# Altium schematic symbol library Microchip Interface.SchLib: 180 symbols (part 3 of 6)
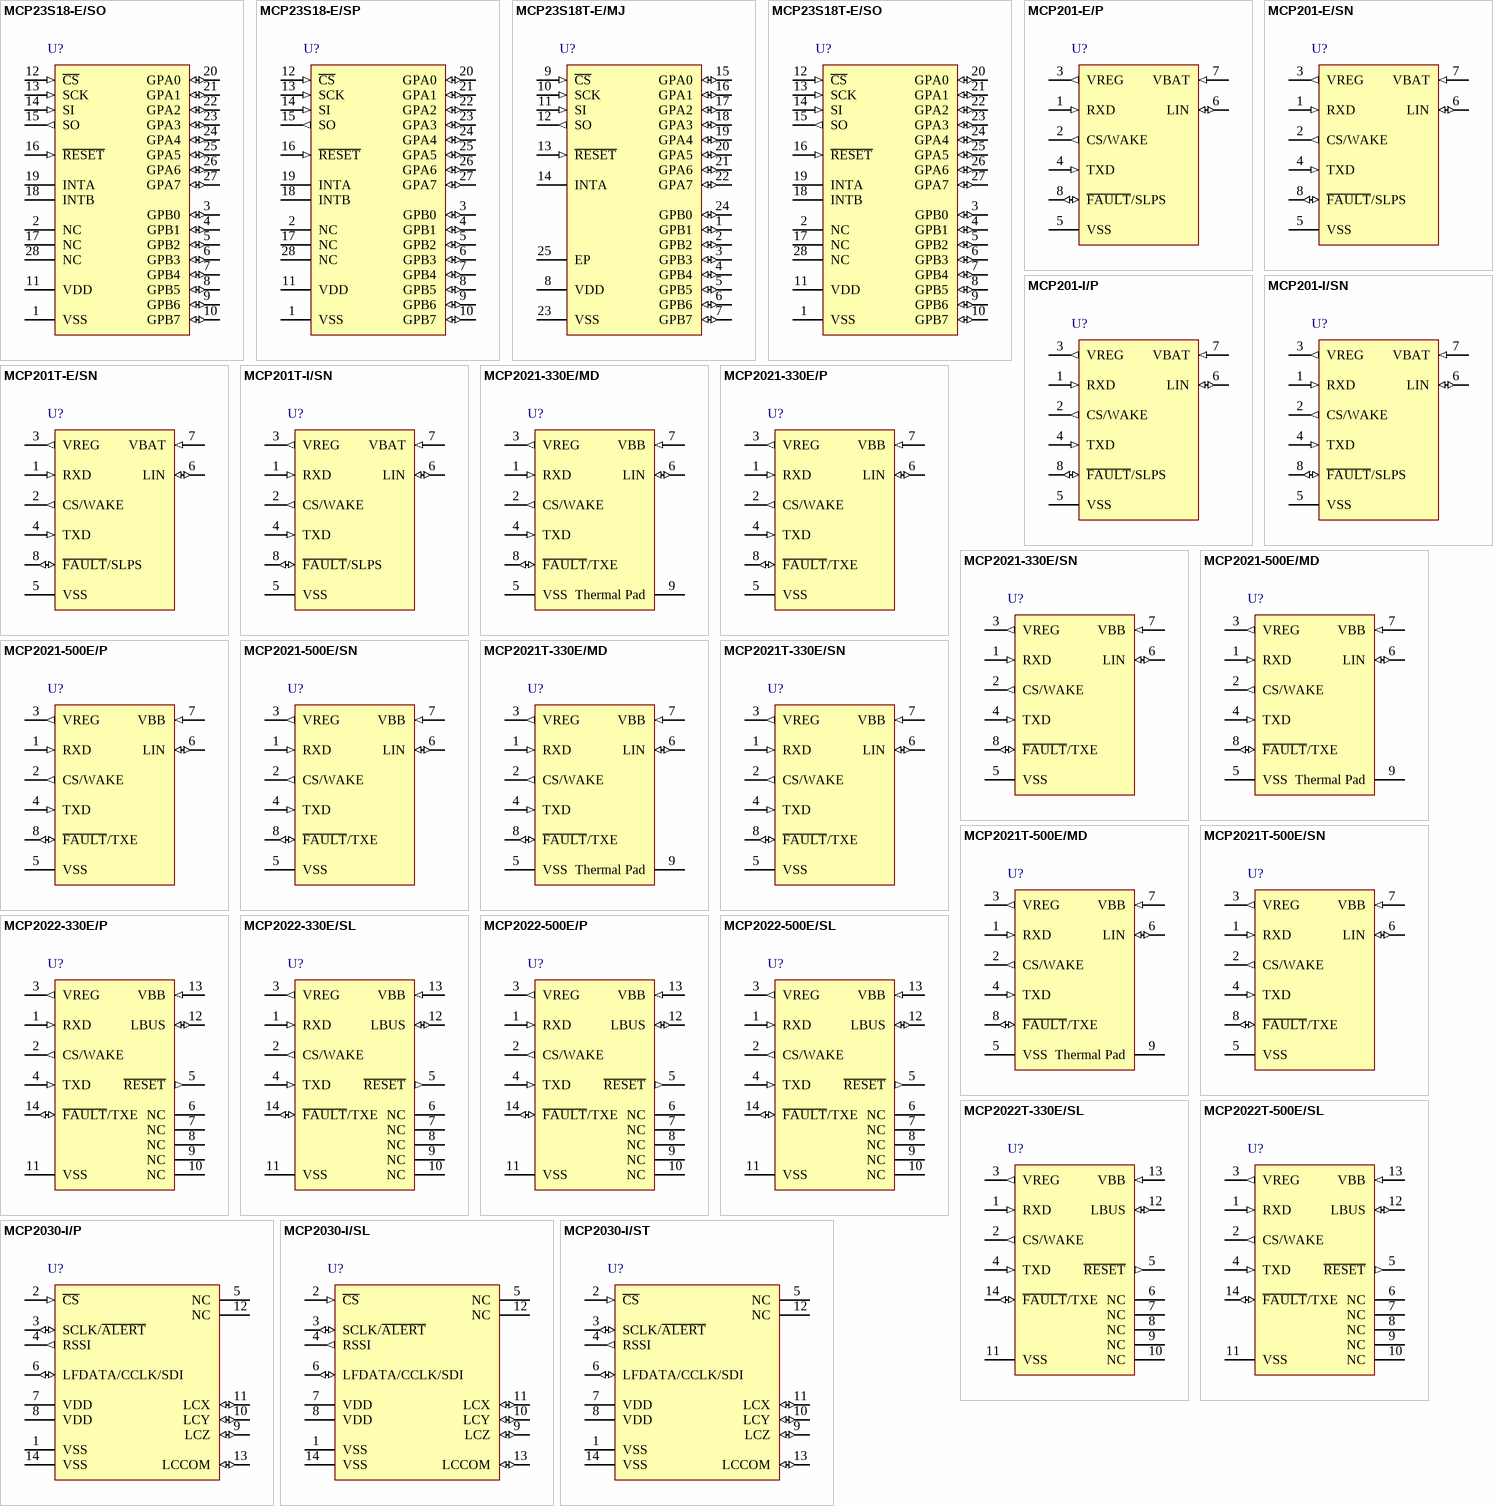
[diagram p10: symbols MCP23S18-E/SO to MCP2030-I/ST]

## MCP2022T-330E/SL
designator U?
LIN Transceiver with Voltage Regulator, 14-Pin SOIC, Extended Temperature, Tape and Reel; Published: 29-Jan-2009; LatestRevisionDate: 02-Dec-2009; LatestRevisionNote: Updated to datesheet revision E, Feb-2009; DatasheetVersion: revE, Feb-2009; PackageVersion: revBB, Aug-2009; PackageReference: SOIC-SL14; Publisher: Altium Limited; PackageDescription: 14-Lead Plastic Small Outline (SL) - Narrow, 3.90mm Body [SOIC]; Supplier 1: Digi-Key; Supplier Part Number 1: MCP2022T-330E/SLTR-ND; Code_JEDEC: MS-012-AB; Code_IPC: SOIC127P600-14; ComponentLink1Description: Datasheet; ComponentLink1URL: http://ww1.microchip.com/downloads/en/DeviceDoc/22018e.pdf; ComponentLink2Description: Packaging Specification; ComponentLink2URL: http://www.microchip.com/stellent/groups/techpub_sg/documents/packagingspec/en012702.pdf; ComponentLink3Description: Microchip.com Home; ComponentLink3URL: http://www.microchip.com/
footprint SOIC-SL14_N (SOIC, 14-Leads, Body 8.7x3.9mm, Pitch 1.27mm, IPC Medium Density)
footprint SOIC-SL14_L (SOIC, 14-Leads, Body 8.7x3.9mm, Pitch 1.27mm, IPC High Density)
footprint SOIC-SL14_M (SOIC, 14-Leads, Body 8.7x3.9mm, Pitch 1.27mm, IPC Low Density)
pins: 1 RXD (in), 2 CS/WAKE (out), 3 VREG (out), 4 TXD (in), 5 ~{RESET} (out), 6 NC, 7 NC, 8 NC, 9 NC, 10 NC, 11 VSS (power), 12 LBUS (io), 13 VBB (in), 14 ~{FAULT}/TXE (io)

## MCP2022T-500E/SL
designator U?
LIN Transceiver with Voltage Regulator, 14-Pin SOIC, Extended Temperature, Tape and Reel; Published: 29-Jan-2009; LatestRevisionDate: 02-Dec-2009; LatestRevisionNote: Updated to datesheet revision E, Feb-2009; DatasheetVersion: revE, Feb-2009; PackageVersion: revBB, Aug-2009; PackageReference: SOIC-SL14; Publisher: Altium Limited; PackageDescription: 14-Lead Plastic Small Outline (SL) - Narrow, 3.90mm Body [SOIC]; Supplier 1: Digi-Key; Supplier Part Number 1: MCP2022T-500E/SLTR-ND; Code_JEDEC: MS-012-AB; Code_IPC: SOIC127P600-14; ComponentLink1Description: Datasheet; ComponentLink1URL: http://ww1.microchip.com/downloads/en/DeviceDoc/22018e.pdf; ComponentLink2Description: Packaging Specification; ComponentLink2URL: http://www.microchip.com/stellent/groups/techpub_sg/documents/packagingspec/en012702.pdf; ComponentLink3Description: Microchip.com Home; ComponentLink3URL: http://www.microchip.com/
footprint SOIC-SL14_N (SOIC, 14-Leads, Body 8.7x3.9mm, Pitch 1.27mm, IPC Medium Density)
footprint SOIC-SL14_L (SOIC, 14-Leads, Body 8.7x3.9mm, Pitch 1.27mm, IPC High Density)
footprint SOIC-SL14_M (SOIC, 14-Leads, Body 8.7x3.9mm, Pitch 1.27mm, IPC Low Density)
pins: 1 RXD (in), 2 CS/WAKE (out), 3 VREG (out), 4 TXD (in), 5 ~{RESET} (out), 6 NC, 7 NC, 8 NC, 9 NC, 10 NC, 11 VSS (power), 12 LBUS (io), 13 VBB (in), 14 ~{FAULT}/TXE (io)

## MCP2030-I/P
designator U?
Three-Channel Analog Front-End Device, 14-Pin PDIP, Industrial Temperature; Published: 29-Jan-2009; DatasheetVersion: revA, Nov-2005; PackageVersion: revBB, Aug-2009; PackageReference: PDIP300-P14; Publisher: Altium Limited; PackageDescription: 14-Lead Plastic Dual In-Line (P) - 300 mil Body [PDIP]; Supplier 1: Digi-Key; Supplier Part Number 1: MCP2030-I/P-ND; Supplier 2: Farnell; Supplier Part Number 2: 1262699; Supplier 3: Farnell; Supplier Part Number 3: 1605563; ComponentLink1Description: Datasheet; ComponentLink1URL: http://ww1.microchip.com/downloads/en/DeviceDoc/21981a.pdf; ComponentLink2Description: Packaging Specification; ComponentLink2URL: http://www.microchip.com/stellent/groups/techpub_sg/documents/packagingspec/en012702.pdf; ComponentLink3Description: Microchip.com Home; ComponentLink3URL: http://www.microchip.com/
footprint PDIP300-P14 (DIP, 14-Leads, Row Spacing 7.62mm, Pitch 2.54mm, Body 19.2x6.6mm)
pins: 1 VSS (power), 2 ~{CS} (in), 3 SCLK/~{ALERT} (io), 4 RSSI (out), 5 NC, 6 LFDATA/CCLK/SDI (io), 7 VDD (power), 8 VDD (power), 9 LCZ (io), 10 LCY (io), 11 LCX (io), 12 NC, 13 LCCOM (io), 14 VSS (power)

## MCP2030-I/SL
designator U?
Three-Channel Analog Front-End Device, 14-Pin SOIC, Industrial Temperature; Published: 29-Jan-2009; DatasheetVersion: revA, Nov-2005; PackageVersion: revBB, Aug-2009; PackageReference: SOIC-SL14; Publisher: Altium Limited; PackageDescription: 14-Lead Plastic Small Outline (SL) - Narrow, 3.90mm Body [SOIC]; Supplier 1: Digi-Key; Supplier Part Number 1: MCP2030-I/SL-ND; Supplier 2: Farnell; Supplier Part Number 2: 1262700; Code_JEDEC: MS-012-AB; Code_IPC: SOIC127P600-14; ComponentLink1Description: Datasheet; ComponentLink1URL: http://ww1.microchip.com/downloads/en/DeviceDoc/21981a.pdf; ComponentLink2Description: Packaging Specification; ComponentLink2URL: http://www.microchip.com/stellent/groups/techpub_sg/documents/packagingspec/en012702.pdf; ComponentLink3Description: Microchip.com Home; ComponentLink3URL: http://www.microchip.com/
footprint SOIC-SL14_N (SOIC, 14-Leads, Body 8.7x3.9mm, Pitch 1.27mm, IPC Medium Density)
footprint SOIC-SL14_L (SOIC, 14-Leads, Body 8.7x3.9mm, Pitch 1.27mm, IPC High Density)
footprint SOIC-SL14_M (SOIC, 14-Leads, Body 8.7x3.9mm, Pitch 1.27mm, IPC Low Density)
pins: 1 VSS (power), 2 ~{CS} (in), 3 SCLK/~{ALERT} (io), 4 RSSI (out), 5 NC, 6 LFDATA/CCLK/SDI (io), 7 VDD (power), 8 VDD (power), 9 LCZ (io), 10 LCY (io), 11 LCX (io), 12 NC, 13 LCCOM (io), 14 VSS (power)

## MCP2030-I/ST
designator U?
Three-Channel Analog Front-End Device, 14-Pin TSSOP, Industrial Temperature; Published: 29-Jan-2009; DatasheetVersion: revA, Nov-2005; PackageVersion: revBB, Aug-2009; PackageReference: TSSOP-ST14; Publisher: Altium Limited; PackageDescription: 14-Lead Plastic Thin Shrink Small Outline (ST) - 4.4mm Body [TSSOP]; Supplier 1: Digi-Key; Supplier Part Number 1: MCP2030-I/ST-ND; ComponentLink1Description: Datasheet; ComponentLink1URL: http://ww1.microchip.com/downloads/en/DeviceDoc/21981a.pdf; ComponentLink2Description: Packaging Specification; ComponentLink2URL: http://www.microchip.com/stellent/groups/techpub_sg/documents/packagingspec/en012702.pdf; ComponentLink3Description: Microchip.com Home; ComponentLink3URL: http://www.microchip.com/
footprint TSSOP-ST14_N (TSOP, 14-Leads, Body 5x4.4mm, Pitch 0.65mm, IPC Medium Density)
footprint TSSOP-ST14_L (TSOP, 14-Leads, Body 5x4.4mm, Pitch 0.65mm, IPC High Density)
footprint TSSOP-ST14_M (TSOP, 14-Leads, Body 5x4.4mm, Pitch 0.65mm, IPC Low Density)
pins: 1 VSS (power), 2 ~{CS} (in), 3 SCLK/~{ALERT} (io), 4 RSSI (out), 5 NC, 6 LFDATA/CCLK/SDI (io), 7 VDD (power), 8 VDD (power), 9 LCZ (io), 10 LCY (io), 11 LCX (io), 12 NC, 13 LCCOM (io), 14 VSS (power)

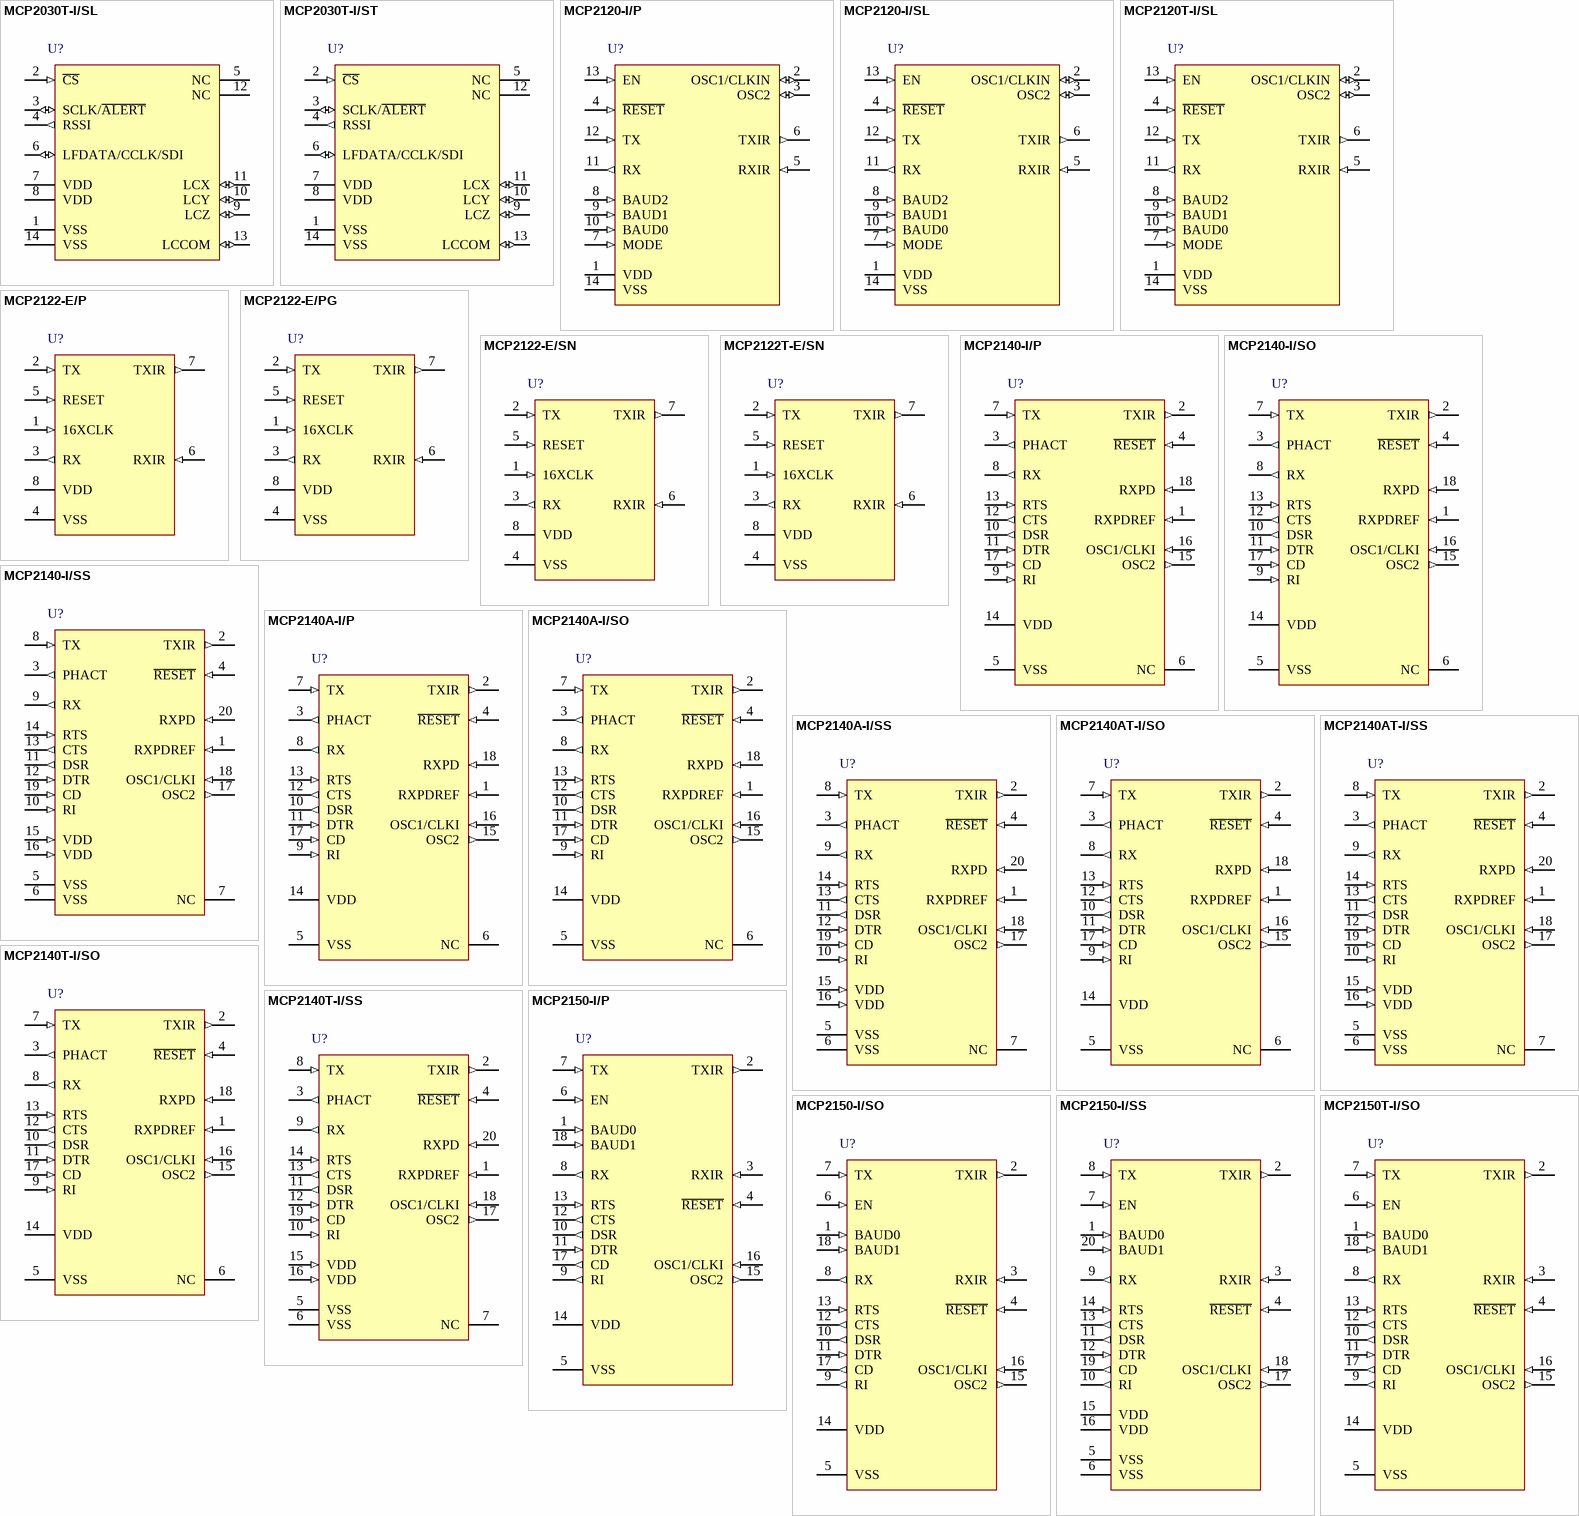
[diagram p4: symbols MCP2030T-I/SL to MCP2150T-I/SO]

## MCP2030T-I/SL
designator U?
Three-Channel Analog Front-End Device, 14-Pin SOIC, Industrial Temperature, Tape and Reel; Published: 29-Jan-2009; DatasheetVersion: revA, Nov-2005; PackageVersion: revBB, Aug-2009; PackageReference: SOIC-SL14; Publisher: Altium Limited; PackageDescription: 14-Lead Plastic Small Outline (SL) - Narrow, 3.90mm Body [SOIC]; Supplier 1: Digi-Key; Supplier Part Number 1: MCP2030T-I/SL-ND; Code_JEDEC: MS-012-AB; Code_IPC: SOIC127P600-14; ComponentLink1Description: Datasheet; ComponentLink1URL: http://ww1.microchip.com/downloads/en/DeviceDoc/21981a.pdf; ComponentLink2Description: Packaging Specification; ComponentLink2URL: http://www.microchip.com/stellent/groups/techpub_sg/documents/packagingspec/en012702.pdf; ComponentLink3Description: Microchip.com Home; ComponentLink3URL: http://www.microchip.com/
footprint SOIC-SL14_N (SOIC, 14-Leads, Body 8.7x3.9mm, Pitch 1.27mm, IPC Medium Density)
footprint SOIC-SL14_L (SOIC, 14-Leads, Body 8.7x3.9mm, Pitch 1.27mm, IPC High Density)
footprint SOIC-SL14_M (SOIC, 14-Leads, Body 8.7x3.9mm, Pitch 1.27mm, IPC Low Density)
pins: 1 VSS (power), 2 ~{CS} (in), 3 SCLK/~{ALERT} (io), 4 RSSI (out), 5 NC, 6 LFDATA/CCLK/SDI (io), 7 VDD (power), 8 VDD (power), 9 LCZ (io), 10 LCY (io), 11 LCX (io), 12 NC, 13 LCCOM (io), 14 VSS (power)

## MCP2030T-I/ST
designator U?
Three-Channel Analog Front-End Device, 14-Pin TSSOP, Industrial Temperature, Tape and Reel; Published: 29-Jan-2009; DatasheetVersion: revA, Nov-2005; PackageVersion: revBB, Aug-2009; PackageReference: TSSOP-ST14; Publisher: Altium Limited; PackageDescription: 14-Lead Plastic Thin Shrink Small Outline (ST) - 4.4mm Body [TSSOP]; Supplier 1: Digi-Key; Supplier Part Number 1: MCP2030T-I/ST-ND; ComponentLink1Description: Datasheet; ComponentLink1URL: http://ww1.microchip.com/downloads/en/DeviceDoc/21981a.pdf; ComponentLink2Description: Packaging Specification; ComponentLink2URL: http://www.microchip.com/stellent/groups/techpub_sg/documents/packagingspec/en012702.pdf; ComponentLink3Description: Microchip.com Home; ComponentLink3URL: http://www.microchip.com/
footprint TSSOP-ST14_N (TSOP, 14-Leads, Body 5x4.4mm, Pitch 0.65mm, IPC Medium Density)
footprint TSSOP-ST14_L (TSOP, 14-Leads, Body 5x4.4mm, Pitch 0.65mm, IPC High Density)
footprint TSSOP-ST14_M (TSOP, 14-Leads, Body 5x4.4mm, Pitch 0.65mm, IPC Low Density)
pins: 1 VSS (power), 2 ~{CS} (in), 3 SCLK/~{ALERT} (io), 4 RSSI (out), 5 NC, 6 LFDATA/CCLK/SDI (io), 7 VDD (power), 8 VDD (power), 9 LCZ (io), 10 LCY (io), 11 LCX (io), 12 NC, 13 LCCOM (io), 14 VSS (power)

## MCP2120-I/P
designator U?
Infrared Encoder/Decoder, 14-Pin PDIP, Industrial Temperature; Published: 29-Jan-2009; DatasheetVersion: revB, Feb-2007; PackageVersion: revBB, Aug-2009; PackageReference: PDIP300-P14; Publisher: Altium Limited; PackageDescription: 14-Lead Plastic Dual In-Line (P) - 300 mil Body [PDIP]; Supplier 1: Digi-Key; Supplier Part Number 1: MCP2120-I/P-ND; Supplier 2: Farnell; Supplier Part Number 2: 1084304; ComponentLink1Description: Datasheet; ComponentLink1URL: http://ww1.microchip.com/downloads/en/DeviceDoc/21618b.pdf; ComponentLink2Description: Packaging Specification; ComponentLink2URL: http://www.microchip.com/stellent/groups/techpub_sg/documents/packagingspec/en012702.pdf; ComponentLink3Description: Microchip.com Home; ComponentLink3URL: http://www.microchip.com/
footprint PDIP300-P14 (DIP, 14-Leads, Row Spacing 7.62mm, Pitch 2.54mm, Body 19.2x6.6mm)
pins: 1 VDD (power), 2 OSC1/CLKIN (io), 3 OSC2 (io), 4 ~{RESET} (in), 5 RXIR (in), 6 TXIR (out), 7 MODE (in), 8 BAUD2 (in), 9 BAUD1 (in), 10 BAUD0 (in), 11 RX (out), 12 TX (in), 13 EN (in), 14 VSS (power)

## MCP2120-I/SL
designator U?
Infrared Encoder/Decoder, 14-Pin SOIC, Industrial Temperature; Published: 29-Jan-2009; DatasheetVersion: revB, Feb-2007; PackageVersion: revBB, Aug-2009; PackageReference: SOIC-SL14; Publisher: Altium Limited; PackageDescription: 14-Lead Plastic Small Outline (SL) - Narrow, 3.90mm Body [SOIC]; Supplier 1: Digi-Key; Supplier Part Number 1: MCP2120-I/SL-ND; Supplier 2: Farnell; Supplier Part Number 2: 1084305; Code_JEDEC: MS-012-AB; Code_IPC: SOIC127P600-14; ComponentLink1Description: Datasheet; ComponentLink1URL: http://ww1.microchip.com/downloads/en/DeviceDoc/21618b.pdf; ComponentLink2Description: Packaging Specification; ComponentLink2URL: http://www.microchip.com/stellent/groups/techpub_sg/documents/packagingspec/en012702.pdf; ComponentLink3Description: Microchip.com Home; ComponentLink3URL: http://www.microchip.com/
footprint SOIC-SL14_N (SOIC, 14-Leads, Body 8.7x3.9mm, Pitch 1.27mm, IPC Medium Density)
footprint SOIC-SL14_L (SOIC, 14-Leads, Body 8.7x3.9mm, Pitch 1.27mm, IPC High Density)
footprint SOIC-SL14_M (SOIC, 14-Leads, Body 8.7x3.9mm, Pitch 1.27mm, IPC Low Density)
pins: 1 VDD (power), 2 OSC1/CLKIN (io), 3 OSC2 (io), 4 ~{RESET} (in), 5 RXIR (in), 6 TXIR (out), 7 MODE (in), 8 BAUD2 (in), 9 BAUD1 (in), 10 BAUD0 (in), 11 RX (out), 12 TX (in), 13 EN (in), 14 VSS (power)

## MCP2120T-I/SL
designator U?
Infrared Encoder/Decoder, 14-Pin SOIC, Industrial Temperature, Tape and Reel; Published: 29-Jan-2009; DatasheetVersion: revB, Feb-2007; PackageVersion: revBB, Aug-2009; PackageReference: SOIC-SL14; Publisher: Altium Limited; PackageDescription: 14-Lead Plastic Small Outline (SL) - Narrow, 3.90mm Body [SOIC]; Supplier 1: Digi-Key; Supplier Part Number 1: MCP2120T-I/SL-ND; Code_JEDEC: MS-012-AB; Code_IPC: SOIC127P600-14; ComponentLink1Description: Datasheet; ComponentLink1URL: http://ww1.microchip.com/downloads/en/DeviceDoc/21618b.pdf; ComponentLink2Description: Packaging Specification; ComponentLink2URL: http://www.microchip.com/stellent/groups/techpub_sg/documents/packagingspec/en012702.pdf; ComponentLink3Description: Microchip.com Home; ComponentLink3URL: http://www.microchip.com/
footprint SOIC-SL14_N (SOIC, 14-Leads, Body 8.7x3.9mm, Pitch 1.27mm, IPC Medium Density)
footprint SOIC-SL14_L (SOIC, 14-Leads, Body 8.7x3.9mm, Pitch 1.27mm, IPC High Density)
footprint SOIC-SL14_M (SOIC, 14-Leads, Body 8.7x3.9mm, Pitch 1.27mm, IPC Low Density)
pins: 1 VDD (power), 2 OSC1/CLKIN (io), 3 OSC2 (io), 4 ~{RESET} (in), 5 RXIR (in), 6 TXIR (out), 7 MODE (in), 8 BAUD2 (in), 9 BAUD1 (in), 10 BAUD0 (in), 11 RX (out), 12 TX (in), 13 EN (in), 14 VSS (power)

## MCP2122-E/P
designator U?
Infrared Encoder/Decoder, PDIP, Extended Temperature; Published: 29-Jan-2009; DatasheetVersion: revC, Feb-2007; PackageVersion: revBB, Aug-2009; PackageReference: PDIP300-P8; Publisher: Altium Limited; PackageDescription: 8-Lead Plastic Dual In-Line (P) - 300 mil Body [PDIP]; Supplier 1: Digi-Key; Supplier Part Number 1: MCP2122-E/P-ND; Supplier 2: Farnell; Supplier Part Number 2: 1818528; Code_JEDEC: MS-001; ComponentLink1Description: Datasheet; ComponentLink1URL: http://ww1.microchip.com/downloads/en/DeviceDoc/21894c.pdf; ComponentLink2Description: Packaging Specification; ComponentLink2URL: http://www.microchip.com/stellent/groups/techpub_sg/documents/packagingspec/en012702.pdf; ComponentLink3Description: Microchip.com Home; ComponentLink3URL: http://www.microchip.com/
footprint PDIP300-P8 (DIP, 8-Leads, Row Spacing 7.62mm, Pitch 2.54mm, Body 9.5x6.6mm)
pins: 1 16XCLK (in), 2 TX (in), 3 RX (out), 4 VSS (power), 5 RESET (in), 6 RXIR (in), 7 TXIR (out), 8 VDD (power)

## MCP2122-E/PG
designator U?
Infrared Encoder/Decoder, PDIP, Extended Temperature; Published: 2-Dec-2009; DatasheetVersion: revC, Feb-2007; PackageVersion: revBB, Aug-2009; PackageReference: PDIP300-P8; Publisher: Altium Limited; PackageDescription: 8-Lead Plastic Dual In-Line (P) - 300 mil Body [PDIP]; Supplier 1: Digi-Key; Supplier Part Number 1: MCP2122-E/PG-ND; Supplier 2: Farnell; Supplier Part Number 2: 7893383; Code_JEDEC: MS-001; ComponentLink1Description: Datasheet; ComponentLink1URL: http://ww1.microchip.com/downloads/en/DeviceDoc/21894c.pdf; ComponentLink2Description: Packaging Specification; ComponentLink2URL: http://www.microchip.com/stellent/groups/techpub_sg/documents/packagingspec/en012702.pdf; ComponentLink3Description: Microchip.com Home; ComponentLink3URL: http://www.microchip.com/
footprint PDIP300-P8 (DIP, 8-Leads, Row Spacing 7.62mm, Pitch 2.54mm, Body 9.5x6.6mm)
pins: 1 16XCLK (in), 2 TX (in), 3 RX (out), 4 VSS (power), 5 RESET (in), 6 RXIR (in), 7 TXIR (out), 8 VDD (power)

## MCP2122-E/SN
designator U?
Infrared Encoder/Decoder, SOIC, Extended Temperature; Published: 29-Jan-2009; DatasheetVersion: revC, Feb-2007; PackageVersion: revBB, Aug-2009; PackageReference: SOIC-SN8; Publisher: Altium Limited; PackageDescription: 8-Lead Plastic Small Outline (SN) - Narrow, 3.90mm Body [SOIC]; Supplier 1: Digi-Key; Supplier Part Number 1: MCP2122-E/SN-ND; Supplier 2: Farnell; Supplier Part Number 2: 1788356; Code_JEDEC: MS-012; Code_IPC: SOIC127P600-8; ComponentLink1Description: Datasheet; ComponentLink1URL: http://ww1.microchip.com/downloads/en/DeviceDoc/21894c.pdf; ComponentLink2Description: Packaging Specification; ComponentLink2URL: http://www.microchip.com/stellent/groups/techpub_sg/documents/packagingspec/en012702.pdf; ComponentLink3Description: Microchip.com Home; ComponentLink3URL: http://www.microchip.com/
footprint SOIC-SN8_N (SOIC, 8-Leads, Body 4.9x3.8mm, Pitch 1.27mm, IPC Medium Density)
footprint SOIC-SN8_L (SOIC, 8-Leads, Body 4.9x3.8mm, Pitch 1.27mm, IPC High Density)
footprint SOIC-SN8_M (SOIC, 8-Leads, Body 4.9x3.8mm, Pitch 1.27mm, IPC Low Density)
pins: 1 16XCLK (in), 2 TX (in), 3 RX (out), 4 VSS (power), 5 RESET (in), 6 RXIR (in), 7 TXIR (out), 8 VDD (power)

## MCP2122T-E/SN
designator U?
Infrared Encoder/Decoder, SOIC, Extended Temperature, Tape and Reel; Published: 29-Jan-2009; DatasheetVersion: revC, Feb-2007; PackageVersion: revBB, Aug-2009; PackageReference: SOIC-SN8; Publisher: Altium Limited; PackageDescription: 8-Lead Plastic Small Outline (SN) - Narrow, 3.90mm Body [SOIC]; Supplier 1: Digi-Key; Supplier Part Number 1: MCP2122T-E/SNTR-ND; Supplier 2: Digi-Key; Supplier Part Number 2: MCP2122T-E/SNCT-ND; Supplier 3: Digi-Key; Supplier Part Number 3: MCP2122T-E/SNDKR-ND; Code_JEDEC: MS-012; Code_IPC: SOIC127P600-8; ComponentLink1Description: Datasheet; ComponentLink1URL: http://ww1.microchip.com/downloads/en/DeviceDoc/21894c.pdf; ComponentLink2Description: Packaging Specification; ComponentLink2URL: http://www.microchip.com/stellent/groups/techpub_sg/documents/packagingspec/en012702.pdf; ComponentLink3Description: Microchip.com Home; ComponentLink3URL: http://www.microchip.com/
footprint SOIC-SN8_N (SOIC, 8-Leads, Body 4.9x3.8mm, Pitch 1.27mm, IPC Medium Density)
footprint SOIC-SN8_L (SOIC, 8-Leads, Body 4.9x3.8mm, Pitch 1.27mm, IPC High Density)
footprint SOIC-SN8_M (SOIC, 8-Leads, Body 4.9x3.8mm, Pitch 1.27mm, IPC Low Density)
pins: 1 16XCLK (in), 2 TX (in), 3 RX (out), 4 VSS (power), 5 RESET (in), 6 RXIR (in), 7 TXIR (out), 8 VDD (power)

## MCP2140-I/P
designator U?
IrDA® Standard Protocol Stack Controller With Fixed 9600 Baud Communication Rate, 18-Pin PDIP, Industrial Temperature; Published: 29-Jan-2009; DatasheetVersion: revA, Sep-2003; PackageVersion: revBB, Aug-2009; PackageReference: PDIP300-P18; Publisher: Altium Limited; PackageDescription: 18-Lead Plastic Dual In-Line (P) - 300 mil Body [PDIP]; Supplier 1: Digi-Key; Supplier Part Number 1: MCP2140-I/P-ND; Supplier 2: Farnell; Supplier Part Number 2: 1332084; Code_JEDEC: MS-001; ComponentLink1Description: Datasheet; ComponentLink1URL: http://ww1.microchip.com/downloads/en/DeviceDoc/21790a.pdf; ComponentLink2Description: Packaging Specification; ComponentLink2URL: http://www.microchip.com/stellent/groups/techpub_sg/documents/packagingspec/en012702.pdf; ComponentLink3Description: Microchip.com Home; ComponentLink3URL: http://www.microchip.com/
footprint PDIP300-P18 (DIP, 18-Leads, Row Spacing 7.62mm, Pitch 2.54mm, Body 22.9x6.6mm)
pins: 1 RXPDREF (in), 2 TXIR (out), 3 PHACT (out), 4 ~{RESET} (in), 5 VSS (power), 6 NC, 7 TX (in), 8 RX (out), 9 RI (in), 10 DSR (out), 11 DTR (in), 12 CTS (out), 13 RTS (in), 14 VDD (power), 15 OSC2 (out), 16 OSC1/CLKI (in), 17 CD (in), 18 RXPD (in)

## MCP2140-I/SO
designator U?
IrDA® Standard Protocol Stack Controller With Fixed 9600 Baud Communication Rate, 18-Pin SOIC, Industrial Temperature; Published: 29-Jan-2009; DatasheetVersion: revA, Sep-2003; PackageVersion: revBB, Aug-2009; PackageReference: SOIC-SO18; Publisher: Altium Limited; PackageDescription: 18-Lead Plastic Small Outline (SO) - Wide 7.50mm Body [SOIC]; Supplier 1: Digi-Key; Supplier Part Number 1: MCP2140-I/SO-ND; Supplier 2: Farnell; Supplier Part Number 2: 1332085; Code_JEDEC: MS-013; ComponentLink1Description: Datasheet; ComponentLink1URL: http://ww1.microchip.com/downloads/en/DeviceDoc/21790a.pdf; ComponentLink2Description: Packaging Specification; ComponentLink2URL: http://www.microchip.com/stellent/groups/techpub_sg/documents/packagingspec/en012702.pdf; ComponentLink3Description: Microchip.com Home; ComponentLink3URL: http://www.microchip.com/
footprint SOIC-SO18_N (SOIC, 18-Leads, Body 11.5x7.5mm, Pitch 1.27mm, IPC Medium Density)
footprint SOIC-SO18_L (SOIC, 18-Leads, Body 11.5x7.5mm, Pitch 1.27mm, IPC High Density)
footprint SOIC-SO18_M (SOIC, 18-Leads, Body 11.5x7.5mm, Pitch 1.27mm, IPC Low Density)
pins: 1 RXPDREF (in), 2 TXIR (out), 3 PHACT (out), 4 ~{RESET} (in), 5 VSS (power), 6 NC, 7 TX (in), 8 RX (out), 9 RI (in), 10 DSR (out), 11 DTR (in), 12 CTS (out), 13 RTS (in), 14 VDD (power), 15 OSC2 (out), 16 OSC1/CLKI (in), 17 CD (in), 18 RXPD (in)

## MCP2140-I/SS
designator U?
IrDA® Standard Protocol Stack Controller With Fixed 9600 Baud Communication Rate, 20-Pin SSOP, Industrial Temperature; Published: 29-Jan-2009; DatasheetVersion: revA, Sep-2003; PackageVersion: revBB, Aug-2009; PackageReference: SSOP-SS20; Publisher: Altium Limited; PackageDescription: 20-Lead Plastic Shrink Small Outline (SS) - 5.3mm Body [SSOP]; Supplier 1: Digi-Key; Supplier Part Number 1: MCP2140-I/SS-ND; Supplier 2: Farnell; Supplier Part Number 2: 1261506; Code_JEDEC: MO-150; Code_IPC: SOP65P780-20; ComponentLink1Description: Datasheet; ComponentLink1URL: http://ww1.microchip.com/downloads/en/DeviceDoc/21790a.pdf; ComponentLink2Description: Packaging Specification; ComponentLink2URL: http://www.microchip.com/stellent/groups/techpub_sg/documents/packagingspec/en012702.pdf; ComponentLink3Description: Microchip.com Home; ComponentLink3URL: http://www.microchip.com/
footprint SSOP-SS20_N (SOP, 20-Leads, Body 7.2x5.2mm, Pitch 0.65mm, IPC Medium Density)
footprint SSOP-SS20_L (SOP, 20-Leads, Body 7.2x5.2mm, Pitch 0.65mm, IPC High Density)
footprint SSOP-SS20_M (SOP, 20-Leads, Body 7.2x5.2mm, Pitch 0.65mm, IPC Low Density)
pins: 1 RXPDREF (in), 2 TXIR (out), 3 PHACT (out), 4 ~{RESET} (in), 5 VSS (power), 6 VSS (power), 7 NC, 8 TX (in), 9 RX (out), 10 RI (in), 11 DSR (out), 12 DTR (in), 13 CTS (out), 14 RTS (in), 15 VDD (in), 16 VDD (in), 17 OSC2 (out), 18 OSC1/CLKI (in), 19 CD (in), 20 RXPD (in)

## MCP2140A-I/P
designator U?
IrDA® Standard Protocol Stack Controller With Fixed 9600 Baud Communication Rate, 18-Pin PDIP, Industrial Temperature; Published: 29-Jan-2009; DatasheetVersion: revA, Jun-2007; PackageVersion: revBB, Aug-2009; PackageReference: PDIP300-P18; Publisher: Altium Limited; PackageDescription: 18-Lead Plastic Dual In-Line (P) - 300 mil Body [PDIP]; Supplier 1: Digi-Key; Supplier Part Number 1: MCP2140A-I/P-ND; Supplier 2: Farnell; Supplier Part Number 2: 1439520; Code_JEDEC: MS-001; ComponentLink1Description: Datasheet; ComponentLink1URL: http://ww1.microchip.com/downloads/en/DeviceDoc/22050a.pdf; ComponentLink2Description: Packaging Specification; ComponentLink2URL: http://www.microchip.com/stellent/groups/techpub_sg/documents/packagingspec/en012702.pdf; ComponentLink3Description: Microchip.com Home; ComponentLink3URL: http://www.microchip.com/
footprint PDIP300-P18 (DIP, 18-Leads, Row Spacing 7.62mm, Pitch 2.54mm, Body 22.9x6.6mm)
pins: 1 RXPDREF (in), 2 TXIR (out), 3 PHACT (out), 4 ~{RESET} (in), 5 VSS (power), 6 NC, 7 TX (in), 8 RX (out), 9 RI (in), 10 DSR (out), 11 DTR (in), 12 CTS (out), 13 RTS (in), 14 VDD (power), 15 OSC2 (out), 16 OSC1/CLKI (in), 17 CD (in), 18 RXPD (in)

## MCP2140A-I/SO
designator U?
IrDA® Standard Protocol Stack Controller With Fixed 9600 Baud Communication Rate, 18-Pin SOIC, Industrial Temperature; Published: 29-Jan-2009; DatasheetVersion: revA, Jun-2007; PackageVersion: revBB, Aug-2009; PackageReference: SOIC-SO18; Publisher: Altium Limited; PackageDescription: 18-Lead Plastic Small Outline (SO) - Wide 7.50mm Body [SOIC]; Supplier 1: Digi-Key; Supplier Part Number 1: MCP2140A-I/SO-ND; Supplier 2: Farnell; Supplier Part Number 2: 1439521; Code_JEDEC: MS-013; ComponentLink1Description: Datasheet; ComponentLink1URL: http://ww1.microchip.com/downloads/en/DeviceDoc/22050a.pdf; ComponentLink2Description: Packaging Specification; ComponentLink2URL: http://www.microchip.com/stellent/groups/techpub_sg/documents/packagingspec/en012702.pdf; ComponentLink3Description: Microchip.com Home; ComponentLink3URL: http://www.microchip.com/
footprint SOIC-SO18_N (SOIC, 18-Leads, Body 11.5x7.5mm, Pitch 1.27mm, IPC Medium Density)
footprint SOIC-SO18_L (SOIC, 18-Leads, Body 11.5x7.5mm, Pitch 1.27mm, IPC High Density)
footprint SOIC-SO18_M (SOIC, 18-Leads, Body 11.5x7.5mm, Pitch 1.27mm, IPC Low Density)
pins: 1 RXPDREF (in), 2 TXIR (out), 3 PHACT (out), 4 ~{RESET} (in), 5 VSS (power), 6 NC, 7 TX (in), 8 RX (out), 9 RI (in), 10 DSR (out), 11 DTR (in), 12 CTS (out), 13 RTS (in), 14 VDD (power), 15 OSC2 (out), 16 OSC1/CLKI (in), 17 CD (in), 18 RXPD (in)

## MCP2140A-I/SS
designator U?
IrDA® Standard Protocol Stack Controller With Fixed 9600 Baud Communication Rate, 20-Pin SSOP, Industrial Temperature; Published: 29-Jan-2009; DatasheetVersion: revA, Jun-2007; PackageVersion: revBB, Aug-2009; PackageReference: SSOP-SS20; Publisher: Altium Limited; PackageDescription: 20-Lead Plastic Shrink Small Outline (SS) - 5.3mm Body [SSOP]; Supplier 1: Digi-Key; Supplier Part Number 1: MCP2140A-I/SS-ND; Code_JEDEC: MO-150; Code_IPC: SOP65P780-20; ComponentLink1Description: Datasheet; ComponentLink1URL: http://ww1.microchip.com/downloads/en/DeviceDoc/22050a.pdf; ComponentLink2Description: Packaging Specification; ComponentLink2URL: http://www.microchip.com/stellent/groups/techpub_sg/documents/packagingspec/en012702.pdf; ComponentLink3Description: Microchip.com Home; ComponentLink3URL: http://www.microchip.com/
footprint SSOP-SS20_N (SOP, 20-Leads, Body 7.2x5.2mm, Pitch 0.65mm, IPC Medium Density)
footprint SSOP-SS20_L (SOP, 20-Leads, Body 7.2x5.2mm, Pitch 0.65mm, IPC High Density)
footprint SSOP-SS20_M (SOP, 20-Leads, Body 7.2x5.2mm, Pitch 0.65mm, IPC Low Density)
pins: 1 RXPDREF (in), 2 TXIR (out), 3 PHACT (out), 4 ~{RESET} (in), 5 VSS (power), 6 VSS (power), 7 NC, 8 TX (in), 9 RX (out), 10 RI (in), 11 DSR (out), 12 DTR (in), 13 CTS (out), 14 RTS (in), 15 VDD (in), 16 VDD (in), 17 OSC2 (out), 18 OSC1/CLKI (in), 19 CD (in), 20 RXPD (in)

## MCP2140AT-I/SO
designator U?
IrDA® Standard Protocol Stack Controller With Fixed 9600 Baud Communication Rate, 18-Pin SOIC, Industrial Temperature, Tape and Reel; Published: 29-Jan-2009; DatasheetVersion: revA, Jun-2007; PackageVersion: revBB, Aug-2009; PackageReference: SOIC-SO18; Publisher: Altium Limited; PackageDescription: 18-Lead Plastic Small Outline (SO) - Wide 7.50mm Body [SOIC]; Supplier 1: Digi-Key; Supplier Part Number 1: MCP2140AT-I/SOTR-ND; Code_JEDEC: MS-013; ComponentLink1Description: Datasheet; ComponentLink1URL: http://ww1.microchip.com/downloads/en/DeviceDoc/22050a.pdf; ComponentLink2Description: Packaging Specification; ComponentLink2URL: http://www.microchip.com/stellent/groups/techpub_sg/documents/packagingspec/en012702.pdf; ComponentLink3Description: Microchip.com Home; ComponentLink3URL: http://www.microchip.com/
footprint SOIC-SO18_N (SOIC, 18-Leads, Body 11.5x7.5mm, Pitch 1.27mm, IPC Medium Density)
footprint SOIC-SO18_L (SOIC, 18-Leads, Body 11.5x7.5mm, Pitch 1.27mm, IPC High Density)
footprint SOIC-SO18_M (SOIC, 18-Leads, Body 11.5x7.5mm, Pitch 1.27mm, IPC Low Density)
pins: 1 RXPDREF (in), 2 TXIR (out), 3 PHACT (out), 4 ~{RESET} (in), 5 VSS (power), 6 NC, 7 TX (in), 8 RX (out), 9 RI (in), 10 DSR (out), 11 DTR (in), 12 CTS (out), 13 RTS (in), 14 VDD (power), 15 OSC2 (out), 16 OSC1/CLKI (in), 17 CD (in), 18 RXPD (in)

## MCP2140AT-I/SS
designator U?
IrDA® Standard Protocol Stack Controller With Fixed 9600 Baud Communication Rate, 20-Pin SSOP, Industrial Temperature, Tape and Reel; Published: 29-Jan-2009; DatasheetVersion: revA, Jun-2007; PackageVersion: revBB, Aug-2009; PackageReference: SSOP-SS20; Publisher: Altium Limited; PackageDescription: 20-Lead Plastic Shrink Small Outline (SS) - 5.3mm Body [SSOP]; Supplier 1: Digi-Key; Supplier Part Number 1: MCP2140AT-I/SSTR-ND; Code_JEDEC: MO-150; Code_IPC: SOP65P780-20; ComponentLink1Description: Datasheet; ComponentLink1URL: http://ww1.microchip.com/downloads/en/DeviceDoc/22050a.pdf; ComponentLink2Description: Packaging Specification; ComponentLink2URL: http://www.microchip.com/stellent/groups/techpub_sg/documents/packagingspec/en012702.pdf; ComponentLink3Description: Microchip.com Home; ComponentLink3URL: http://www.microchip.com/
footprint SSOP-SS20_N (SOP, 20-Leads, Body 7.2x5.2mm, Pitch 0.65mm, IPC Medium Density)
footprint SSOP-SS20_L (SOP, 20-Leads, Body 7.2x5.2mm, Pitch 0.65mm, IPC High Density)
footprint SSOP-SS20_M (SOP, 20-Leads, Body 7.2x5.2mm, Pitch 0.65mm, IPC Low Density)
pins: 1 RXPDREF (in), 2 TXIR (out), 3 PHACT (out), 4 ~{RESET} (in), 5 VSS (power), 6 VSS (power), 7 NC, 8 TX (in), 9 RX (out), 10 RI (in), 11 DSR (out), 12 DTR (in), 13 CTS (out), 14 RTS (in), 15 VDD (in), 16 VDD (in), 17 OSC2 (out), 18 OSC1/CLKI (in), 19 CD (in), 20 RXPD (in)

## MCP2140T-I/SO
designator U?
IrDA® Standard Protocol Stack Controller With Fixed 9600 Baud Communication Rate, 18-Pin SOIC, Industrial Temperature, Tape and Reel; Published: 29-Jan-2009; DatasheetVersion: revA, Sep-2003; PackageVersion: revBB, Aug-2009; PackageReference: SOIC-SO18; Publisher: Altium Limited; PackageDescription: 18-Lead Plastic Small Outline (SO) - Wide 7.50mm Body [SOIC]; Supplier 1: Digi-Key; Supplier Part Number 1: MCP2140T-I/SO-ND; Code_JEDEC: MS-013; ComponentLink1Description: Datasheet; ComponentLink1URL: http://ww1.microchip.com/downloads/en/DeviceDoc/21790a.pdf; ComponentLink2Description: Packaging Specification; ComponentLink2URL: http://www.microchip.com/stellent/groups/techpub_sg/documents/packagingspec/en012702.pdf; ComponentLink3Description: Microchip.com Home; ComponentLink3URL: http://www.microchip.com/
footprint SOIC-SO18_N (SOIC, 18-Leads, Body 11.5x7.5mm, Pitch 1.27mm, IPC Medium Density)
footprint SOIC-SO18_L (SOIC, 18-Leads, Body 11.5x7.5mm, Pitch 1.27mm, IPC High Density)
footprint SOIC-SO18_M (SOIC, 18-Leads, Body 11.5x7.5mm, Pitch 1.27mm, IPC Low Density)
pins: 1 RXPDREF (in), 2 TXIR (out), 3 PHACT (out), 4 ~{RESET} (in), 5 VSS (power), 6 NC, 7 TX (in), 8 RX (out), 9 RI (in), 10 DSR (out), 11 DTR (in), 12 CTS (out), 13 RTS (in), 14 VDD (power), 15 OSC2 (out), 16 OSC1/CLKI (in), 17 CD (in), 18 RXPD (in)

## MCP2140T-I/SS
designator U?
IrDA® Standard Protocol Stack Controller With Fixed 9600 Baud Communication Rate, 20-Pin SSOP, Industrial Temperature, Tape and Reel; Published: 29-Jan-2009; DatasheetVersion: revA, Sep-2003; PackageVersion: revBB, Aug-2009; PackageReference: SSOP-SS20; Publisher: Altium Limited; PackageDescription: 20-Lead Plastic Shrink Small Outline (SS) - 5.3mm Body [SSOP]; Supplier 1: Digi-Key; Supplier Part Number 1: MCP2140T-I/SS-ND; Code_JEDEC: MO-150; Code_IPC: SOP65P780-20; ComponentLink1Description: Datasheet; ComponentLink1URL: http://ww1.microchip.com/downloads/en/DeviceDoc/21790a.pdf; ComponentLink2Description: Packaging Specification; ComponentLink2URL: http://www.microchip.com/stellent/groups/techpub_sg/documents/packagingspec/en012702.pdf; ComponentLink3Description: Microchip.com Home; ComponentLink3URL: http://www.microchip.com/
footprint SSOP-SS20_N (SOP, 20-Leads, Body 7.2x5.2mm, Pitch 0.65mm, IPC Medium Density)
footprint SSOP-SS20_L (SOP, 20-Leads, Body 7.2x5.2mm, Pitch 0.65mm, IPC High Density)
footprint SSOP-SS20_M (SOP, 20-Leads, Body 7.2x5.2mm, Pitch 0.65mm, IPC Low Density)
pins: 1 RXPDREF (in), 2 TXIR (out), 3 PHACT (out), 4 ~{RESET} (in), 5 VSS (power), 6 VSS (power), 7 NC, 8 TX (in), 9 RX (out), 10 RI (in), 11 DSR (out), 12 DTR (in), 13 CTS (out), 14 RTS (in), 15 VDD (in), 16 VDD (in), 17 OSC2 (out), 18 OSC1/CLKI (in), 19 CD (in), 20 RXPD (in)

## MCP2150-I/P
designator U?
IrDA® Standard Protocol Stack Controller Supporting DTE Applications, 18-Pin PDIP, Industrial Temperature; Published: 29-Jan-2009; DatasheetVersion: revB, Mar-2003; PackageVersion: revBB, Aug-2009; PackageReference: PDIP300-P18; Publisher: Altium Limited; PackageDescription: 18-Lead Plastic Dual In-Line (P) - 300 mil Body [PDIP]; Supplier 1: Digi-Key; Supplier Part Number 1: MCP2150-I/P-ND; Supplier 2: Farnell; Supplier Part Number 2: 9758518; Code_JEDEC: MS-001; ComponentLink1Description: Datasheet; ComponentLink1URL: http://ww1.microchip.com/downloads/en/DeviceDoc/21655b.pdf; ComponentLink2Description: Packaging Specification; ComponentLink2URL: http://www.microchip.com/stellent/groups/techpub_sg/documents/packagingspec/en012702.pdf; ComponentLink3Description: Microchip.com Home; ComponentLink3URL: http://www.microchip.com/
footprint PDIP300-P18 (DIP, 18-Leads, Row Spacing 7.62mm, Pitch 2.54mm, Body 22.9x6.6mm)
pins: 1 BAUD0 (in), 2 TXIR (out), 3 RXIR (in), 4 ~{RESET} (in), 5 VSS (power), 6 EN (in), 7 TX (in), 8 RX (out), 9 RI (out), 10 DSR (out), 11 DTR (in), 12 CTS (out), 13 RTS (in), 14 VDD (power), 15 OSC2 (out), 16 OSC1/CLKI (in), 17 CD (out), 18 BAUD1 (in)

## MCP2150-I/SO
designator U?
IrDA® Standard Protocol Stack Controller Supporting DTE Applications, 18-Pin SOIC, Industrial Temperature; Published: 29-Jan-2009; DatasheetVersion: revB, Mar-2003; PackageVersion: revBB, Aug-2009; PackageReference: SOIC-SO18; Publisher: Altium Limited; PackageDescription: 18-Lead Plastic Small Outline (SO) - Wide 7.50mm Body [SOIC]; Supplier 1: Digi-Key; Supplier Part Number 1: MCP2150-I/SO-ND; Supplier 2: Farnell; Supplier Part Number 2: 9758526; Code_JEDEC: MS-013; ComponentLink1Description: Datasheet; ComponentLink1URL: http://ww1.microchip.com/downloads/en/DeviceDoc/21655b.pdf; ComponentLink2Description: Packaging Specification; ComponentLink2URL: http://www.microchip.com/stellent/groups/techpub_sg/documents/packagingspec/en012702.pdf; ComponentLink3Description: Microchip.com Home; ComponentLink3URL: http://www.microchip.com/
footprint SOIC-SO18_N (SOIC, 18-Leads, Body 11.5x7.5mm, Pitch 1.27mm, IPC Medium Density)
footprint SOIC-SO18_L (SOIC, 18-Leads, Body 11.5x7.5mm, Pitch 1.27mm, IPC High Density)
footprint SOIC-SO18_M (SOIC, 18-Leads, Body 11.5x7.5mm, Pitch 1.27mm, IPC Low Density)
pins: 1 BAUD0 (in), 2 TXIR (out), 3 RXIR (in), 4 ~{RESET} (in), 5 VSS (power), 6 EN (in), 7 TX (in), 8 RX (out), 9 RI (out), 10 DSR (out), 11 DTR (in), 12 CTS (out), 13 RTS (in), 14 VDD (power), 15 OSC2 (out), 16 OSC1/CLKI (in), 17 CD (out), 18 BAUD1 (in)

## MCP2150-I/SS
designator U?
IrDA® Standard Protocol Stack Controller Supporting DTE Applications, 20-Pin SSOP, Industrial Temperature; Published: 29-Jan-2009; DatasheetVersion: revB, Mar-2003; PackageVersion: revBB, Aug-2009; PackageReference: SSOP-SS20; Publisher: Altium Limited; PackageDescription: 20-Lead Plastic Shrink Small Outline (SS) - 5.3mm Body [SSOP]; Supplier 1: Digi-Key; Supplier Part Number 1: MCP2150-I/SS-ND; Supplier 2: Farnell; Supplier Part Number 2: 1467817; Supplier 3: Farnell; Supplier Part Number 3: 1079738; Code_JEDEC: MO-150; Code_IPC: SOP65P780-20; ComponentLink1Description: Datasheet; ComponentLink1URL: http://ww1.microchip.com/downloads/en/DeviceDoc/21655b.pdf; ComponentLink2Description: Packaging Specification; ComponentLink2URL: http://www.microchip.com/stellent/groups/techpub_sg/documents/packagingspec/en012702.pdf; ComponentLink3Description: Microchip.com Home; ComponentLink3URL: http://www.microchip.com/
footprint SSOP-SS20_N (SOP, 20-Leads, Body 7.2x5.2mm, Pitch 0.65mm, IPC Medium Density)
footprint SSOP-SS20_L (SOP, 20-Leads, Body 7.2x5.2mm, Pitch 0.65mm, IPC High Density)
footprint SSOP-SS20_M (SOP, 20-Leads, Body 7.2x5.2mm, Pitch 0.65mm, IPC Low Density)
pins: 1 BAUD0 (in), 2 TXIR (out), 3 RXIR (in), 4 ~{RESET} (in), 5 VSS (power), 6 VSS (power), 7 EN (in), 8 TX (in), 9 RX (out), 10 RI (out), 11 DSR (out), 12 DTR (in), 13 CTS (out), 14 RTS (in), 15 VDD (power), 16 VDD (power), 17 OSC2 (out), 18 OSC1/CLKI (in), 19 CD (out), 20 BAUD1 (in)

## MCP2150T-I/SO
designator U?
IrDA® Standard Protocol Stack Controller Supporting DTE Applications, 18-Pin SOIC, Industrial Temperature, Tape and Reel; Published: 29-Jan-2009; DatasheetVersion: revB, Mar-2003; PackageVersion: revBB, Aug-2009; PackageReference: SOIC-SO18; Publisher: Altium Limited; PackageDescription: 18-Lead Plastic Small Outline (SO) - Wide 7.50mm Body [SOIC]; Supplier 1: Digi-Key; Supplier Part Number 1: MCP2150T-I/SO-ND; Code_JEDEC: MS-013; ComponentLink1Description: Datasheet; ComponentLink1URL: http://ww1.microchip.com/downloads/en/DeviceDoc/21655b.pdf; ComponentLink2Description: Packaging Specification; ComponentLink2URL: http://www.microchip.com/stellent/groups/techpub_sg/documents/packagingspec/en012702.pdf; ComponentLink3Description: Microchip.com Home; ComponentLink3URL: http://www.microchip.com/
footprint SOIC-SO18_N (SOIC, 18-Leads, Body 11.5x7.5mm, Pitch 1.27mm, IPC Medium Density)
footprint SOIC-SO18_L (SOIC, 18-Leads, Body 11.5x7.5mm, Pitch 1.27mm, IPC High Density)
footprint SOIC-SO18_M (SOIC, 18-Leads, Body 11.5x7.5mm, Pitch 1.27mm, IPC Low Density)
pins: 1 BAUD0 (in), 2 TXIR (out), 3 RXIR (in), 4 ~{RESET} (in), 5 VSS (power), 6 EN (in), 7 TX (in), 8 RX (out), 9 RI (out), 10 DSR (out), 11 DTR (in), 12 CTS (out), 13 RTS (in), 14 VDD (power), 15 OSC2 (out), 16 OSC1/CLKI (in), 17 CD (out), 18 BAUD1 (in)

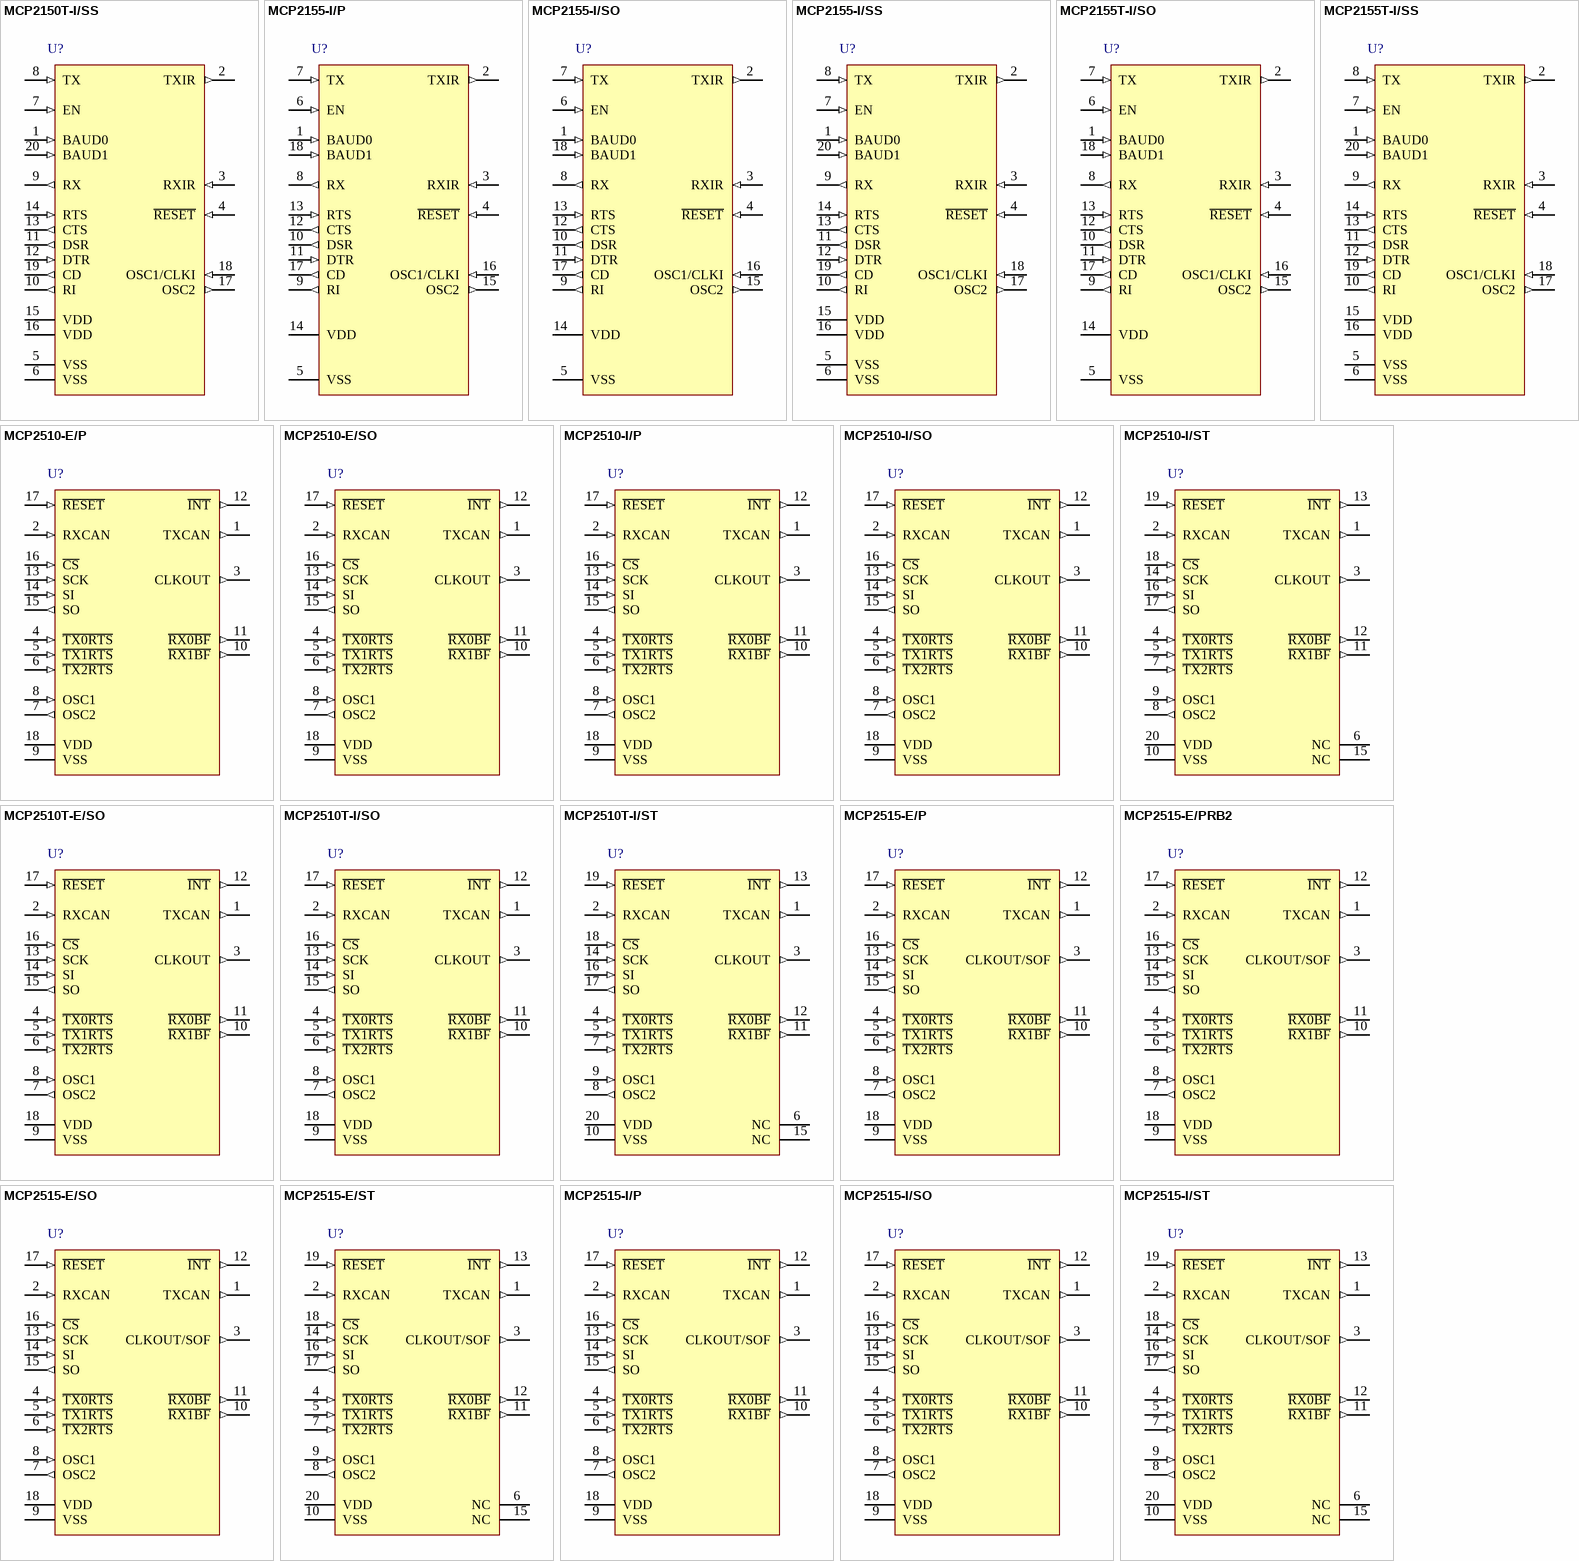
[diagram p5: symbols MCP2150T-I/SS to MCP2515-I/ST]

## MCP2150T-I/SS
designator U?
IrDA® Standard Protocol Stack Controller Supporting DTE Applications, 20-Pin SSOP, Industrial Temperature, Tape and Reel; Published: 29-Jan-2009; DatasheetVersion: revB, Mar-2003; PackageVersion: revBB, Aug-2009; PackageReference: SSOP-SS20; Publisher: Altium Limited; PackageDescription: 20-Lead Plastic Shrink Small Outline (SS) - 5.3mm Body [SSOP]; Supplier 1: Digi-Key; Supplier Part Number 1: MCP2150T-I/SS-ND; Code_JEDEC: MO-150; Code_IPC: SOP65P780-20; ComponentLink1Description: Datasheet; ComponentLink1URL: http://ww1.microchip.com/downloads/en/DeviceDoc/21655b.pdf; ComponentLink2Description: Packaging Specification; ComponentLink2URL: http://www.microchip.com/stellent/groups/techpub_sg/documents/packagingspec/en012702.pdf; ComponentLink3Description: Microchip.com Home; ComponentLink3URL: http://www.microchip.com/
footprint SSOP-SS20_N (SOP, 20-Leads, Body 7.2x5.2mm, Pitch 0.65mm, IPC Medium Density)
footprint SSOP-SS20_L (SOP, 20-Leads, Body 7.2x5.2mm, Pitch 0.65mm, IPC High Density)
footprint SSOP-SS20_M (SOP, 20-Leads, Body 7.2x5.2mm, Pitch 0.65mm, IPC Low Density)
pins: 1 BAUD0 (in), 2 TXIR (out), 3 RXIR (in), 4 ~{RESET} (in), 5 VSS (power), 6 VSS (power), 7 EN (in), 8 TX (in), 9 RX (out), 10 RI (out), 11 DSR (out), 12 DTR (in), 13 CTS (out), 14 RTS (in), 15 VDD (power), 16 VDD (power), 17 OSC2 (out), 18 OSC1/CLKI (in), 19 CD (out), 20 BAUD1 (in)

## MCP2155-I/P
designator U?
IrDA® Standard Protocol Stack Controller Supporting DCE Applications, 18-Pin PDIP, Industrial Temperature; Published: 29-Jan-2009; DatasheetVersion: revA, Mar-2003; PackageVersion: revBB, Aug-2009; PackageReference: PDIP300-P18; Publisher: Altium Limited; PackageDescription: 18-Lead Plastic Dual In-Line (P) - 300 mil Body [PDIP]; Supplier 1: Digi-Key; Supplier Part Number 1: MCP2155-I/P-ND; Supplier 2: Farnell; Supplier Part Number 2: 1557426; Code_JEDEC: MS-001; ComponentLink1Description: Datasheet; ComponentLink1URL: http://ww1.microchip.com/downloads/en/DeviceDoc/21690a.pdf; ComponentLink2Description: Packaging Specification; ComponentLink2URL: http://www.microchip.com/stellent/groups/techpub_sg/documents/packagingspec/en012702.pdf; ComponentLink3Description: Microchip.com Home; ComponentLink3URL: http://www.microchip.com/
footprint PDIP300-P18 (DIP, 18-Leads, Row Spacing 7.62mm, Pitch 2.54mm, Body 22.9x6.6mm)
pins: 1 BAUD0 (in), 2 TXIR (out), 3 RXIR (in), 4 ~{RESET} (in), 5 VSS (power), 6 EN (in), 7 TX (in), 8 RX (out), 9 RI (out), 10 DSR (out), 11 DTR (in), 12 CTS (out), 13 RTS (in), 14 VDD (power), 15 OSC2 (out), 16 OSC1/CLKI (in), 17 CD (out), 18 BAUD1 (in)

## MCP2155-I/SO
designator U?
IrDA® Standard Protocol Stack Controller Supporting DCE Applications, 18-Pin SOIC, Industrial Temperature; Published: 29-Jan-2009; DatasheetVersion: revA, Mar-2003; PackageVersion: revBB, Aug-2009; PackageReference: SOIC-SO18; Publisher: Altium Limited; PackageDescription: 18-Lead Plastic Small Outline (SO) - Wide 7.50mm Body [SOIC]; Supplier 1: Digi-Key; Supplier Part Number 1: MCP2155-I/SO-ND; Supplier 2: Farnell; Supplier Part Number 2: 1079739; Code_JEDEC: MS-013; ComponentLink1Description: Datasheet; ComponentLink1URL: http://ww1.microchip.com/downloads/en/DeviceDoc/21690a.pdf; ComponentLink2Description: Packaging Specification; ComponentLink2URL: http://www.microchip.com/stellent/groups/techpub_sg/documents/packagingspec/en012702.pdf; ComponentLink3Description: Microchip.com Home; ComponentLink3URL: http://www.microchip.com/
footprint SOIC-SO18_N (SOIC, 18-Leads, Body 11.5x7.5mm, Pitch 1.27mm, IPC Medium Density)
footprint SOIC-SO18_L (SOIC, 18-Leads, Body 11.5x7.5mm, Pitch 1.27mm, IPC High Density)
footprint SOIC-SO18_M (SOIC, 18-Leads, Body 11.5x7.5mm, Pitch 1.27mm, IPC Low Density)
pins: 1 BAUD0 (in), 2 TXIR (out), 3 RXIR (in), 4 ~{RESET} (in), 5 VSS (power), 6 EN (in), 7 TX (in), 8 RX (out), 9 RI (out), 10 DSR (out), 11 DTR (in), 12 CTS (out), 13 RTS (in), 14 VDD (power), 15 OSC2 (out), 16 OSC1/CLKI (in), 17 CD (out), 18 BAUD1 (in)

## MCP2155-I/SS
designator U?
IrDA® Standard Protocol Stack Controller Supporting DCE Applications, 20-Pin SSOP, Industrial Temperature; Published: 29-Jan-2009; DatasheetVersion: revA, Mar-2003; PackageVersion: revBB, Aug-2009; PackageReference: SSOP-SS20; Publisher: Altium Limited; PackageDescription: 20-Lead Plastic Shrink Small Outline (SS) - 5.3mm Body [SSOP]; Supplier 1: Digi-Key; Supplier Part Number 1: MCP2155-I/SS-ND; Code_JEDEC: MO-150; Code_IPC: SOP65P780-20; ComponentLink1Description: Datasheet; ComponentLink1URL: http://ww1.microchip.com/downloads/en/DeviceDoc/21690a.pdf; ComponentLink2Description: Packaging Specification; ComponentLink2URL: http://www.microchip.com/stellent/groups/techpub_sg/documents/packagingspec/en012702.pdf; ComponentLink3Description: Microchip.com Home; ComponentLink3URL: http://www.microchip.com/
footprint SSOP-SS20_N (SOP, 20-Leads, Body 7.2x5.2mm, Pitch 0.65mm, IPC Medium Density)
footprint SSOP-SS20_L (SOP, 20-Leads, Body 7.2x5.2mm, Pitch 0.65mm, IPC High Density)
footprint SSOP-SS20_M (SOP, 20-Leads, Body 7.2x5.2mm, Pitch 0.65mm, IPC Low Density)
pins: 1 BAUD0 (in), 2 TXIR (out), 3 RXIR (in), 4 ~{RESET} (in), 5 VSS (power), 6 VSS (power), 7 EN (in), 8 TX (in), 9 RX (out), 10 RI (out), 11 DSR (out), 12 DTR (in), 13 CTS (out), 14 RTS (in), 15 VDD (power), 16 VDD (power), 17 OSC2 (out), 18 OSC1/CLKI (in), 19 CD (out), 20 BAUD1 (in)

## MCP2155T-I/SO
designator U?
IrDA® Standard Protocol Stack Controller Supporting DCE Applications, 18-Pin SOIC, Industrial Temperature, Tape and Reel; Published: 29-Jan-2009; DatasheetVersion: revA, Mar-2003; PackageVersion: revBB, Aug-2009; PackageReference: SOIC-SO18; Publisher: Altium Limited; PackageDescription: 18-Lead Plastic Small Outline (SO) - Wide 7.50mm Body [SOIC]; Supplier 1: Digi-Key; Supplier Part Number 1: MCP2155T-I/SO-ND; Code_JEDEC: MS-013; ComponentLink1Description: Datasheet; ComponentLink1URL: http://ww1.microchip.com/downloads/en/DeviceDoc/21690a.pdf; ComponentLink2Description: Packaging Specification; ComponentLink2URL: http://www.microchip.com/stellent/groups/techpub_sg/documents/packagingspec/en012702.pdf; ComponentLink3Description: Microchip.com Home; ComponentLink3URL: http://www.microchip.com/
footprint SOIC-SO18_N (SOIC, 18-Leads, Body 11.5x7.5mm, Pitch 1.27mm, IPC Medium Density)
footprint SOIC-SO18_L (SOIC, 18-Leads, Body 11.5x7.5mm, Pitch 1.27mm, IPC High Density)
footprint SOIC-SO18_M (SOIC, 18-Leads, Body 11.5x7.5mm, Pitch 1.27mm, IPC Low Density)
pins: 1 BAUD0 (in), 2 TXIR (out), 3 RXIR (in), 4 ~{RESET} (in), 5 VSS (power), 6 EN (in), 7 TX (in), 8 RX (out), 9 RI (out), 10 DSR (out), 11 DTR (in), 12 CTS (out), 13 RTS (in), 14 VDD (power), 15 OSC2 (out), 16 OSC1/CLKI (in), 17 CD (out), 18 BAUD1 (in)

## MCP2155T-I/SS
designator U?
IrDA® Standard Protocol Stack Controller Supporting DCE Applications, 20-Pin SSOP, Industrial Temperature, Tape and Reel; Published: 29-Jan-2009; DatasheetVersion: revA, Mar-2003; PackageVersion: revBB, Aug-2009; PackageReference: SSOP-SS20; Publisher: Altium Limited; PackageDescription: 20-Lead Plastic Shrink Small Outline (SS) - 5.3mm Body [SSOP]; Supplier 1: Digi-Key; Supplier Part Number 1: MCP2155T-I/SS-ND; Code_JEDEC: MO-150; Code_IPC: SOP65P780-20; ComponentLink1Description: Datasheet; ComponentLink1URL: http://ww1.microchip.com/downloads/en/DeviceDoc/21690a.pdf; ComponentLink2Description: Packaging Specification; ComponentLink2URL: http://www.microchip.com/stellent/groups/techpub_sg/documents/packagingspec/en012702.pdf; ComponentLink3Description: Microchip.com Home; ComponentLink3URL: http://www.microchip.com/
footprint SSOP-SS20_N (SOP, 20-Leads, Body 7.2x5.2mm, Pitch 0.65mm, IPC Medium Density)
footprint SSOP-SS20_L (SOP, 20-Leads, Body 7.2x5.2mm, Pitch 0.65mm, IPC High Density)
footprint SSOP-SS20_M (SOP, 20-Leads, Body 7.2x5.2mm, Pitch 0.65mm, IPC Low Density)
pins: 1 BAUD0 (in), 2 TXIR (out), 3 RXIR (in), 4 ~{RESET} (in), 5 VSS (power), 6 VSS (power), 7 EN (in), 8 TX (in), 9 RX (out), 10 RI (out), 11 DSR (out), 12 DTR (in), 13 CTS (out), 14 RTS (in), 15 VDD (power), 16 VDD (power), 17 OSC2 (out), 18 OSC1/CLKI (in), 19 CD (out), 20 BAUD1 (in)

## MCP2510-E/P
designator U?
Stand-Alone CAN Controller with SPI Interface, 18-Pin PDIP, Extended Temperature; Published: 29-Jan-2009; DatasheetVersion: revF, Jan-2007; PackageVersion: revBB, Aug-2009; PackageReference: PDIP300-P18; Publisher: Altium Limited; PackageDescription: 18-Lead Plastic Dual In-Line (P) - 300 mil Body [PDIP]; Supplier 1: Digi-Key; Supplier Part Number 1: MCP2510-E/P-ND; Supplier 2: Farnell; Supplier Part Number 2: 1261509; Code_JEDEC: MS-001; ComponentLink1Description: Datasheet; ComponentLink1URL: http://ww1.microchip.com/downloads/en/DeviceDoc/21291F.pdf; ComponentLink2Description: Packaging Specification; ComponentLink2URL: http://www.microchip.com/stellent/groups/techpub_sg/documents/packagingspec/en012702.pdf; ComponentLink3Description: Microchip.com Home; ComponentLink3URL: http://www.microchip.com/
footprint PDIP300-P18 (DIP, 18-Leads, Row Spacing 7.62mm, Pitch 2.54mm, Body 22.9x6.6mm)
pins: 1 TXCAN (out), 2 RXCAN (in), 3 CLKOUT (out), 4 ~{TX0RTS} (in), 5 ~{TX1RTS} (in), 6 ~{TX2RTS} (in), 7 OSC2 (out), 8 OSC1 (in), 9 VSS (power), 10 ~{RX1BF} (out), 11 ~{RX0BF} (out), 12 ~{INT} (out), 13 SCK (in), 14 SI (in), 15 SO (out), 16 ~{CS} (in), 17 ~{RESET} (in), 18 VDD (power)

## MCP2510-E/SO
designator U?
Stand-Alone CAN Controller with SPI Interface, 18-Pin SOIC, Extended Temperature; Published: 29-Jan-2009; DatasheetVersion: revF, Jan-2007; PackageVersion: revBB, Aug-2009; PackageReference: SOIC-SO18; Publisher: Altium Limited; PackageDescription: 18-Lead Plastic Small Outline (SO) - Wide 7.50mm Body [SOIC]; Supplier 1: Digi-Key; Supplier Part Number 1: MCP2510-E/SO-ND; Code_JEDEC: MS-013; ComponentLink1Description: Datasheet; ComponentLink1URL: http://ww1.microchip.com/downloads/en/DeviceDoc/21291F.pdf; ComponentLink2Description: Packaging Specification; ComponentLink2URL: http://www.microchip.com/stellent/groups/techpub_sg/documents/packagingspec/en012702.pdf; ComponentLink3Description: Microchip.com Home; ComponentLink3URL: http://www.microchip.com/
footprint SOIC-SO18_N (SOIC, 18-Leads, Body 11.5x7.5mm, Pitch 1.27mm, IPC Medium Density)
footprint SOIC-SO18_L (SOIC, 18-Leads, Body 11.5x7.5mm, Pitch 1.27mm, IPC High Density)
footprint SOIC-SO18_M (SOIC, 18-Leads, Body 11.5x7.5mm, Pitch 1.27mm, IPC Low Density)
pins: 1 TXCAN (out), 2 RXCAN (in), 3 CLKOUT (out), 4 ~{TX0RTS} (in), 5 ~{TX1RTS} (in), 6 ~{TX2RTS} (in), 7 OSC2 (out), 8 OSC1 (in), 9 VSS (power), 10 ~{RX1BF} (out), 11 ~{RX0BF} (out), 12 ~{INT} (out), 13 SCK (in), 14 SI (in), 15 SO (out), 16 ~{CS} (in), 17 ~{RESET} (in), 18 VDD (power)

## MCP2510-I/P
designator U?
Stand-Alone CAN Controller with SPI Interface, 18-Pin PDIP, Industrial Temperature; Published: 29-Jan-2009; DatasheetVersion: revF, Jan-2007; PackageVersion: revBB, Aug-2009; PackageReference: PDIP300-P18; Publisher: Altium Limited; PackageDescription: 18-Lead Plastic Dual In-Line (P) - 300 mil Body [PDIP]; Supplier 1: Digi-Key; Supplier Part Number 1: MCP2510-I/P-ND; Supplier 2: Farnell; Supplier Part Number 2: 9764720; Supplier 3: Farnell; Supplier Part Number 3: 9758534; Code_JEDEC: MS-001; ComponentLink1Description: Datasheet; ComponentLink1URL: http://ww1.microchip.com/downloads/en/DeviceDoc/21291F.pdf; ComponentLink2Description: Packaging Specification; ComponentLink2URL: http://www.microchip.com/stellent/groups/techpub_sg/documents/packagingspec/en012702.pdf; ComponentLink3Description: Microchip.com Home; ComponentLink3URL: http://www.microchip.com/
footprint PDIP300-P18 (DIP, 18-Leads, Row Spacing 7.62mm, Pitch 2.54mm, Body 22.9x6.6mm)
pins: 1 TXCAN (out), 2 RXCAN (in), 3 CLKOUT (out), 4 ~{TX0RTS} (in), 5 ~{TX1RTS} (in), 6 ~{TX2RTS} (in), 7 OSC2 (out), 8 OSC1 (in), 9 VSS (power), 10 ~{RX1BF} (out), 11 ~{RX0BF} (out), 12 ~{INT} (out), 13 SCK (in), 14 SI (in), 15 SO (out), 16 ~{CS} (in), 17 ~{RESET} (in), 18 VDD (power)